# Altium schematic symbol library TPS6213x.SchLib: 2 symbols
Pins are listed as number, name and electrical type; pins without a type are passive.

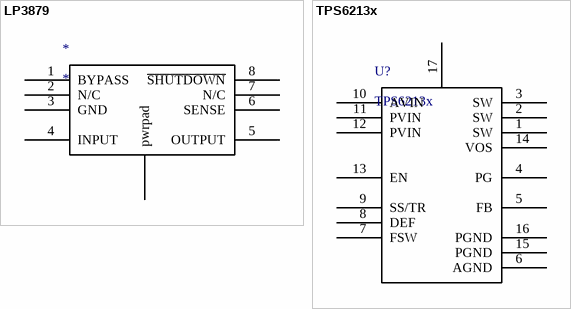
[diagram p0: symbols LP3879 to TPS6213x]

## LP3879
designator *
pins: 1 BYPASS, 2 N/C, 3 GND, 4 INPUT, 5 OUTPUT, 6 SENSE, 7 N/C, 8 ~{SHUTDOWN}, 9 pwrpad

## TPS6213x
designator U?
pins: 1 SW, 2 SW, 3 SW, 4 PG, 5 FB, 6 AGND, 7 FSW, 8 DEF, 9 SS/TR, 10 AVIN, 11 PVIN, 12 PVIN, 13 EN, 14 VOS, 15 PGND, 16 PGND, 17